# Altium footprint library NMOS_Infinion_BSO051N03MS G_PG-DSO-8.PcbLib: 1 footprints
Each footprint in its own frame and in the unit in brackets; x right, y up, seen from the top. Pads: shape width x height; smd on the part's side, far side on the other; paste and mask are expansions set on the pad; w line width, h text height; cw(c..) or ccw(c..) is an arc to the next point about the centre after c.
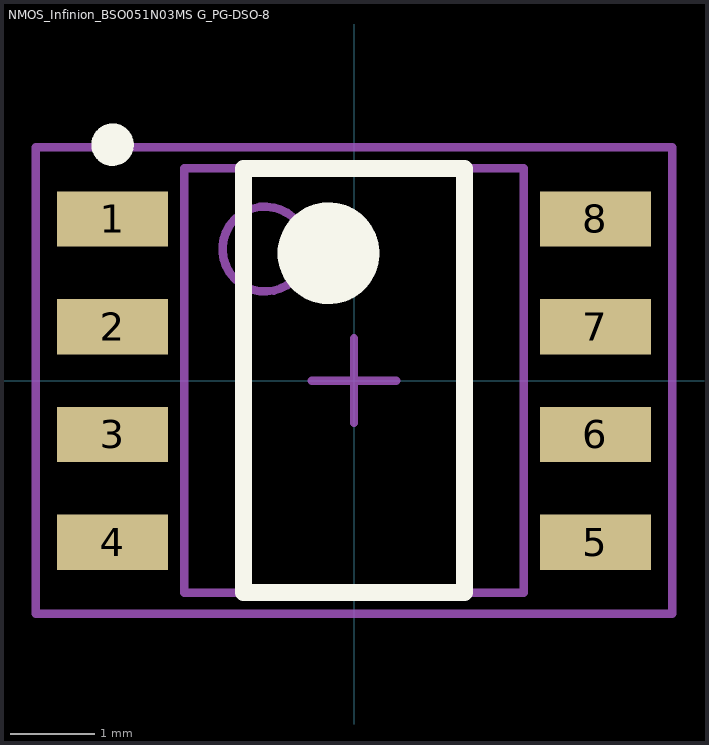
[diagram p0: the footprint, top view; thin cyan lines are the x and y axes]

## NMOS_Infinion_BSO051N03MS G_PG-DSO-8 [mm] "MOSFET N-CH 30V 14A DSO-8"
height 1.75
pads (8):
  rect 1.31x0.65 smd: 1(-2.845,1.905) 2(-2.845,0.635) 3(-2.845,-0.635) 4(-2.845,-1.905) 5(2.845,-1.905) 6(2.845,-0.635) 7(2.845,0.635) 8(2.845,1.905)
Top Overlay:
  circle w0.25: c-2.845,2.78 r0.125
  circle w0.6: c-0.3,1.5 r0.3
  lines w0.2: -1.3,-2.5 -1.3,2.5 1.3,2.5 1.3,-2.5 -1.3,-2.5
Mechanical 13:
  circle w0.1: c-1.05,1.55 r0.5
  lines w0.1: -2,-2.5 -2,2.5 2,2.5 2,-2.5 -2,-2.5
Mechanical 15:
  lines w0.1: -0.5,0 0.5,0 ; 0,-0.5 0,0.5 ; -3.75,-2.75 -3.75,2.75 3.75,2.75 3.75,-2.75 -3.75,-2.75
3D body: height 1.75, standoff 0.1, extent -2,-2.5 2,2.5